# EAGLE library part EPM9560-RQ304 (library altera)
EPM9560 MAX 9000 family
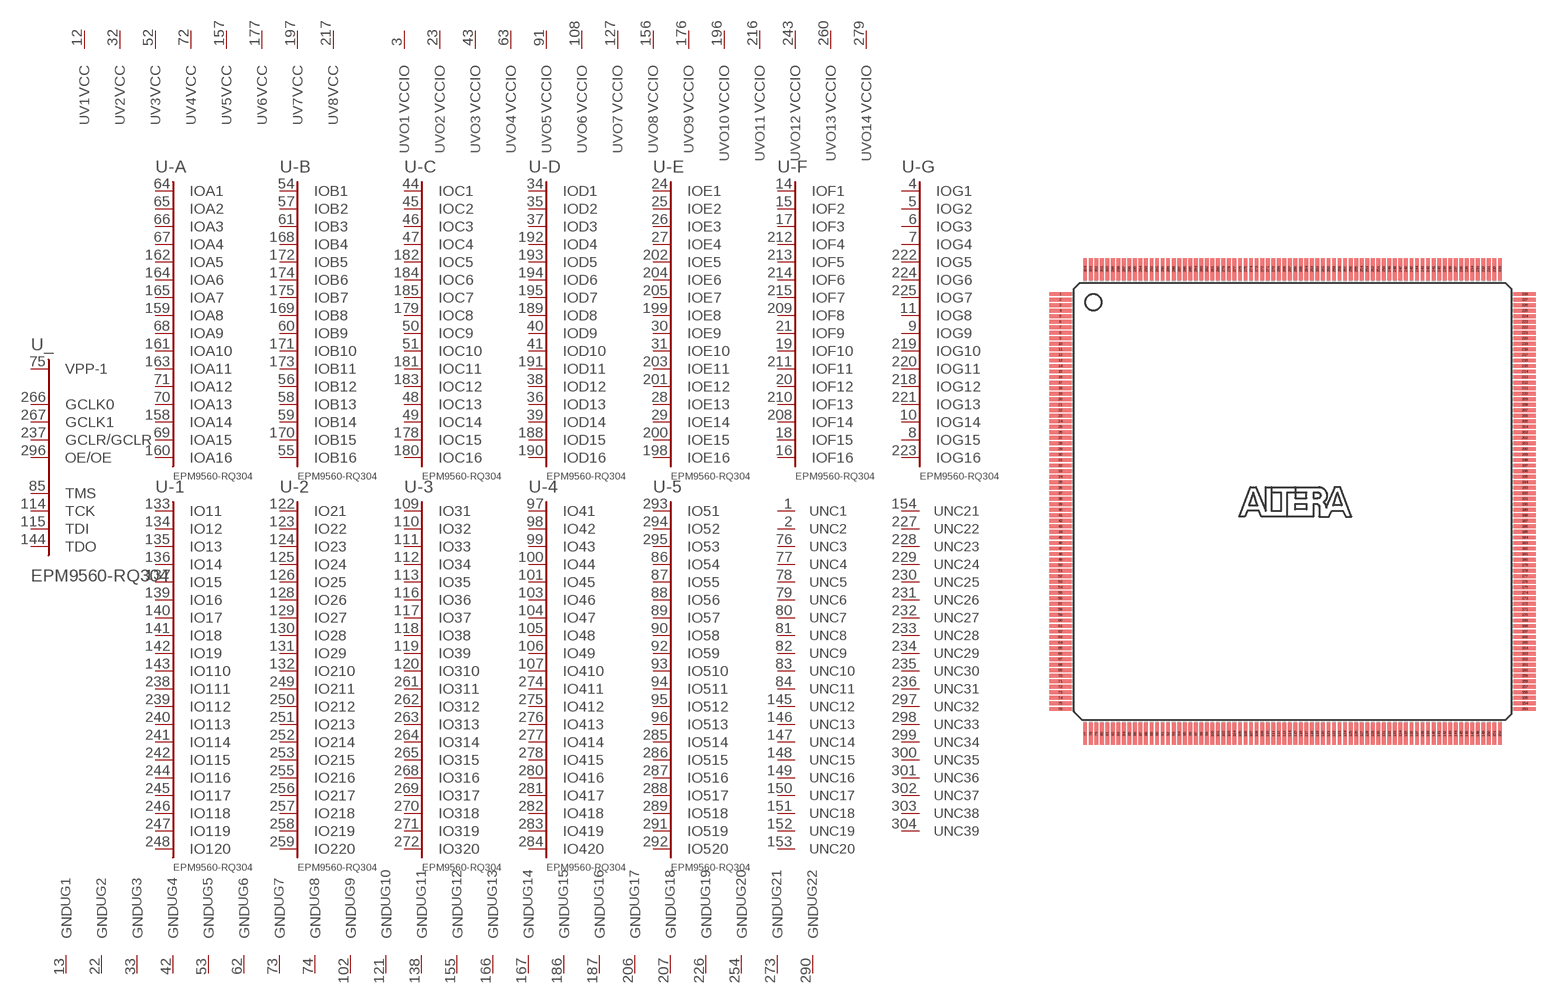
[diagram p21: symbol with the pads of RQFP304; footprint RQFP304]

Designator prefix U; gates _=9560C356 -A=A16-0 -B=B16-0 -C=C16-0 -D=D16-0 -E=E16-0 -F=F16-0 -G=G16-0 -1=IO120 -2=IO220 -3=IO320 -4=IO420 -5=IO520 V1=VCCINT V2=VCCINT V3=VCCINT V4=VCCINT V5=VCCINT V6=VCCINT V7=VCCINT V8=VCCINT VO1=VCCIO VO2=VCCIO VO3=VCCIO VO4=VCCIO VO5=VCCIO VO6=VCCIO VO7=VCCIO VO8=VCCIO VO9=VCCIO VO10=VCCIO VO11=VCCIO VO12=VCCIO VO13=VCCIO VO14=VCCIO G1=GND G2=GND G3=GND G4=GND G5=GND G6=GND G7=GND G8=GND G9=GND G10=GND G11=GND G12=GND G13=GND G14=GND G15=GND G16=GND G17=GND G18=GND G19=GND G20=GND G21=GND G22=GND NC1=NC NC2=NC NC3=NC NC4=NC NC5=NC NC6=NC NC7=NC NC8=NC NC9=NC NC10=NC NC11=NC NC12=NC NC13=NC NC14=NC NC15=NC NC16=NC NC17=NC NC18=NC NC19=NC NC20=NC NC21=NC NC22=NC NC23=NC NC24=NC NC25=NC NC26=NC NC27=NC NC28=NC NC29=NC NC30=NC NC31=NC NC32=NC NC33=NC NC34=NC NC35=NC NC36=NC NC37=NC NC38=NC NC39=NC

## EPM9560-RQ304  [RQFP304]
1  NC1:NC  nc
2  NC2:NC  nc
3  VO1:VCCIO  pwr
4  -G:IOG1
5  -G:IOG2
6  -G:IOG3
7  -G:IOG4
8  -G:IOG15
9  -G:IOG9
10  -G:IOG14
11  -G:IOG8
12  V1:VCC  pwr
13  G1:GND  pwr
14  -F:IOF1
15  -F:IOF2
16  -F:IOF16
17  -F:IOF3
18  -F:IOF15
19  -F:IOF10
20  -F:IOF12
21  -F:IOF9
22  G2:GND  pwr
23  VO2:VCCIO  pwr
24  -E:IOE1
25  -E:IOE2
26  -E:IOE3
27  -E:IOE4
28  -E:IOE13
29  -E:IOE14
30  -E:IOE9
31  -E:IOE10
32  V2:VCC  pwr
33  G3:GND  pwr
34  -D:IOD1
35  -D:IOD2
36  -D:IOD13
37  -D:IOD3
38  -D:IOD12
39  -D:IOD14
40  -D:IOD9
41  -D:IOD10
42  G4:GND  pwr
43  VO3:VCCIO  pwr
44  -C:IOC1
45  -C:IOC2
46  -C:IOC3
47  -C:IOC4
48  -C:IOC13
49  -C:IOC14
50  -C:IOC9
51  -C:IOC10
52  V3:VCC  pwr
53  G5:GND  pwr
54  -B:IOB1
55  -B:IOB16
56  -B:IOB12
57  -B:IOB2
58  -B:IOB13
59  -B:IOB14
60  -B:IOB9
61  -B:IOB3
62  G6:GND  pwr
63  VO4:VCCIO  pwr
64  -A:IOA1
65  -A:IOA2
66  -A:IOA3
67  -A:IOA4
68  -A:IOA9
69  -A:IOA15
70  -A:IOA13
71  -A:IOA12
72  V4:VCC  pwr
73  G7:GND  pwr
74  G8:GND  pwr
75  _:VPP-1  in
76  NC3:NC  nc
77  NC4:NC  nc
78  NC5:NC  nc
79  NC6:NC  nc
80  NC7:NC  nc
81  NC8:NC  nc
82  NC9:NC  nc
83  NC10:NC  nc
84  NC11:NC  nc
85  _:TMS
86  -5:IO54
87  -5:IO55
88  -5:IO56
89  -5:IO57
90  -5:IO58
91  VO5:VCCIO  pwr
92  -5:IO59
93  -5:IO510
94  -5:IO511
95  -5:IO512
96  -5:IO513
97  -4:IO41
98  -4:IO42
99  -4:IO43
100  -4:IO44
101  -4:IO45
102  G9:GND  pwr
103  -4:IO46
104  -4:IO47
105  -4:IO48
106  -4:IO49
107  -4:IO410
108  VO6:VCCIO  pwr
109  -3:IO31
110  -3:IO32
111  -3:IO33
112  -3:IO34
113  -3:IO35
114  _:TCK
115  _:TDI
116  -3:IO36
117  -3:IO37
118  -3:IO38
119  -3:IO39
120  -3:IO310
121  G10:GND  pwr
122  -2:IO21
123  -2:IO22
124  -2:IO23
125  -2:IO24
126  -2:IO25
127  VO7:VCCIO  pwr
128  -2:IO26
129  -2:IO27
130  -2:IO28
131  -2:IO29
132  -2:IO210
133  -1:IO11
134  -1:IO12
135  -1:IO13
136  -1:IO14
137  -1:IO15
138  G11:GND  pwr
139  -1:IO16
140  -1:IO17
141  -1:IO18
142  -1:IO19
143  -1:IO110
144  _:TDO
145  NC12:NC  nc
146  NC13:NC  nc
147  NC14:NC  nc
148  NC15:NC  nc
149  NC16:NC  nc
150  NC17:NC  nc
151  NC18:NC  nc
152  NC19:NC  nc
153  NC20:NC  nc
154  NC21:NC  nc
155  G12:GND  pwr
156  VO8:VCCIO  pwr
157  V5:VCC  pwr
158  -A:IOA14
159  -A:IOA8
160  -A:IOA16
161  -A:IOA10
162  -A:IOA5
163  -A:IOA11
164  -A:IOA6
165  -A:IOA7
166  G13:GND  pwr
167  G14:GND  pwr
168  -B:IOB4
169  -B:IOB8
170  -B:IOB15
171  -B:IOB10
172  -B:IOB5
173  -B:IOB11
174  -B:IOB6
175  -B:IOB7
176  VO9:VCCIO  pwr
177  V6:VCC  pwr
178  -C:IOC15
179  -C:IOC8
180  -C:IOC16
181  -C:IOC11
182  -C:IOC5
183  -C:IOC12
184  -C:IOC6
185  -C:IOC7
186  G15:GND  pwr
187  G16:GND  pwr
188  -D:IOD15
189  -D:IOD8
190  -D:IOD16
191  -D:IOD11
192  -D:IOD4
193  -D:IOD5
194  -D:IOD6
195  -D:IOD7
196  VO10:VCCIO  pwr
197  V7:VCC  pwr
198  -E:IOE16
199  -E:IOE8
200  -E:IOE15
201  -E:IOE12
202  -E:IOE5
203  -E:IOE11
204  -E:IOE6
205  -E:IOE7
206  G17:GND  pwr
207  G18:GND  pwr
208  -F:IOF14
209  -F:IOF8
210  -F:IOF13
211  -F:IOF11
212  -F:IOF4
213  -F:IOF5
214  -F:IOF6
215  -F:IOF7
216  VO11:VCCIO  pwr
217  V8:VCC  pwr
218  -G:IOG12
219  -G:IOG10
220  -G:IOG11
221  -G:IOG13
222  -G:IOG5
223  -G:IOG16
224  -G:IOG6
225  -G:IOG7
226  G19:GND  pwr
227  NC22:NC  nc
228  NC23:NC  nc
229  NC24:NC  nc
230  NC25:NC  nc
231  NC26:NC  nc
232  NC27:NC  nc
233  NC28:NC  nc
234  NC29:NC  nc
235  NC30:NC  nc
236  NC31:NC  nc
237  _:GCLR/GCLR  in
238  -1:IO111
239  -1:IO112
240  -1:IO113
241  -1:IO114
242  -1:IO115
243  VO12:VCCIO  pwr
244  -1:IO116
245  -1:IO117
246  -1:IO118
247  -1:IO119
248  -1:IO120
249  -2:IO211
250  -2:IO212
251  -2:IO213
252  -2:IO214
253  -2:IO215
254  G20:GND  pwr
255  -2:IO216
256  -2:IO217
257  -2:IO218
258  -2:IO219
259  -2:IO220
260  VO13:VCCIO  pwr
261  -3:IO311
262  -3:IO312
263  -3:IO313
264  -3:IO314
265  -3:IO315
266  _:GCLK0  in
267  _:GCLK1  in
268  -3:IO316
269  -3:IO317
270  -3:IO318
271  -3:IO319
272  -3:IO320
273  G21:GND  pwr
274  -4:IO411
275  -4:IO412
276  -4:IO413
277  -4:IO414
278  -4:IO415
279  VO14:VCCIO  pwr
280  -4:IO416
281  -4:IO417
282  -4:IO418
283  -4:IO419
284  -4:IO420
285  -5:IO514
286  -5:IO515
287  -5:IO516
288  -5:IO517
289  -5:IO518
290  G22:GND  pwr
291  -5:IO519
292  -5:IO520
293  -5:IO51
294  -5:IO52
295  -5:IO53
296  _:OE/OE  in
297  NC32:NC  nc
298  NC33:NC  nc
299  NC34:NC  nc
300  NC35:NC  nc
301  NC36:NC  nc
302  NC37:NC  nc
303  NC38:NC  nc
304  NC39:NC  nc

## Footprint RQFP304 (pad centres in mm)
Power Quad Flat Pack
smd 2 x 0.35: 1 -21,18.75; 2 -21,18.25; 3 -21,17.75; 4 -21,17.25; 5 -21,16.75; 6 -21,16.25; 7 -21,15.75; 8 -21,15.25; 9 -21,14.75; 10 -21,14.25; 11 -21,13.75; 12 -21,13.25; 13 -21,12.75; 14 -21,12.25; 15 -21,11.75; 16 -21,11.25; 17 -21,10.75; 18 -21,10.25; 19 -21,9.75; 20 -21,9.25; 21 -21,8.75; 22 -21,8.25; 23 -21,7.75; 24 -21,7.25; 25 -21,6.75; 26 -21,6.25; 27 -21,5.75; 28 -21,5.25; 29 -21,4.75; 30 -21,4.25; 31 -21,3.75; 32 -21,3.25; 33 -21,2.75; 34 -21,2.25; 35 -21,1.75; 36 -21,1.25; 37 -21,0.75; 38 -21,0.25; 39 -21,-0.25; 40 -21,-0.75; 41 -21,-1.25; 42 -21,-1.75; 43 -21,-2.25; 44 -21,-2.75; 45 -21,-3.25; 46 -21,-3.75; 47 -21,-4.25; 48 -21,-4.75; 49 -21,-5.25; 50 -21,-5.75; 51 -21,-6.25; 52 -21,-6.75; 53 -21,-7.25; 54 -21,-7.75; 55 -21,-8.25; 56 -21,-8.75; 57 -21,-9.25; 58 -21,-9.75; 59 -21,-10.25; 60 -21,-10.75; 61 -21,-11.25; 62 -21,-11.75; 63 -21,-12.25; 64 -21,-12.75; 65 -21,-13.25; 66 -21,-13.75; 67 -21,-14.25; 68 -21,-14.75; 69 -21,-15.25; 70 -21,-15.75; 71 -21,-16.25; 72 -21,-16.75; 73 -21,-17.25; 74 -21,-17.75; 75 -21,-18.25; 76 -21,-18.75; 153 21,-18.75; 154 21,-18.25; 155 21,-17.75; 156 21,-17.25; 157 21,-16.75; 158 21,-16.25; 159 21,-15.75; 160 21,-15.25; 161 21,-14.75; 162 21,-14.25; 163 21,-13.75; 164 21,-13.25; 165 21,-12.75; 166 21,-12.25; 167 21,-11.75; 168 21,-11.25; 169 21,-10.75; 170 21,-10.25; 171 21,-9.75; 172 21,-9.25; 173 21,-8.75; 174 21,-8.25; 175 21,-7.75; 176 21,-7.25; 177 21,-6.75; 178 21,-6.25; 179 21,-5.75; 180 21,-5.25; 181 21,-4.75; 182 21,-4.25; 183 21,-3.75; 184 21,-3.25; 185 21,-2.75; 186 21,-2.25; 187 21,-1.75; 188 21,-1.25; 189 21,-0.75; 190 21,-0.25; 191 21,0.25; 192 21,0.75; 193 21,1.25; 194 21,1.75; 195 21,2.25; 196 21,2.75; 197 21,3.25; 198 21,3.75; 199 21,4.25; 200 21,4.75; 201 21,5.25; 202 21,5.75; 203 21,6.25; 204 21,6.75; 205 21,7.25; 206 21,7.75; 207 21,8.25; 208 21,8.75; 209 21,9.25; 210 21,9.75; 211 21,10.25; 212 21,10.75; 213 21,11.25; 214 21,11.75; 215 21,12.25; 216 21,12.75; 217 21,13.25; 218 21,13.75; 219 21,14.25; 220 21,14.75; 221 21,15.25; 222 21,15.75; 223 21,16.25; 224 21,16.75; 225 21,17.25; 226 21,17.75; 227 21,18.25; 228 21,18.75
smd 0.35 x 2: 77 -18.75,-21; 78 -18.25,-21; 79 -17.75,-21; 80 -17.25,-21; 81 -16.75,-21; 82 -16.25,-21; 83 -15.75,-21; 84 -15.25,-21; 85 -14.75,-21; 86 -14.25,-21; 87 -13.75,-21; 88 -13.25,-21; 89 -12.75,-21; 90 -12.25,-21; 91 -11.75,-21; 92 -11.25,-21; 93 -10.75,-21; 94 -10.25,-21; 95 -9.75,-21; 96 -9.25,-21; 97 -8.75,-21; 98 -8.25,-21; 99 -7.75,-21; 100 -7.25,-21; 101 -6.75,-21; 102 -6.25,-21; 103 -5.75,-21; 104 -5.25,-21; 105 -4.75,-21; 106 -4.25,-21; 107 -3.75,-21; 108 -3.25,-21; 109 -2.75,-21; 110 -2.25,-21; 111 -1.75,-21; 112 -1.25,-21; 113 -0.75,-21; 114 -0.25,-21; 115 0.25,-21; 116 0.75,-21; 117 1.25,-21; 118 1.75,-21; 119 2.25,-21; 120 2.75,-21; 121 3.25,-21; 122 3.75,-21; 123 4.25,-21; 124 4.75,-21; 125 5.25,-21; 126 5.75,-21; 127 6.25,-21; 128 6.75,-21; 129 7.25,-21; 130 7.75,-21; 131 8.25,-21; 132 8.75,-21; 133 9.25,-21; 134 9.75,-21; 135 10.25,-21; 136 10.75,-21; 137 11.25,-21; 138 11.75,-21; 139 12.25,-21; 140 12.75,-21; 141 13.25,-21; 142 13.75,-21; 143 14.25,-21; 144 14.75,-21; 145 15.25,-21; 146 15.75,-21; 147 16.25,-21; 148 16.75,-21; 149 17.25,-21; 150 17.75,-21; 151 18.25,-21; 152 18.75,-21; 229 18.75,21; 230 18.25,21; 231 17.75,21; 232 17.25,21; 233 16.75,21; 234 16.25,21; 235 15.75,21; 236 15.25,21; 237 14.75,21; 238 14.25,21; 239 13.75,21; 240 13.25,21; 241 12.75,21; 242 12.25,21; 243 11.75,21; 244 11.25,21; 245 10.75,21; 246 10.25,21; 247 9.75,21; 248 9.25,21; 249 8.75,21; 250 8.25,21; 251 7.75,21; 252 7.25,21; 253 6.75,21; 254 6.25,21; 255 5.75,21; 256 5.25,21; 257 4.75,21; 258 4.25,21; 259 3.75,21; 260 3.25,21; 261 2.75,21; 262 2.25,21; 263 1.75,21; 264 1.25,21; 265 0.75,21; 266 0.25,21; 267 -0.25,21; 268 -0.75,21; 269 -1.25,21; 270 -1.75,21; 271 -2.25,21; 272 -2.75,21; 273 -3.25,21; 274 -3.75,21; 275 -4.25,21; 276 -4.75,21; 277 -5.25,21; 278 -5.75,21; 279 -6.25,21; 280 -6.75,21; 281 -7.25,21; 282 -7.75,21; 283 -8.25,21; 284 -8.75,21; 285 -9.25,21; 286 -9.75,21; 287 -10.25,21; 288 -10.75,21; 289 -11.25,21; 290 -11.75,21; 291 -12.25,21; 292 -12.75,21; 293 -13.25,21; 294 -13.75,21; 295 -14.25,21; 296 -14.75,21; 297 -15.25,21; 298 -15.75,21; 299 -16.25,21; 300 -16.75,21; 301 -17.25,21; 302 -17.75,21; 303 -18.25,21; 304 -18.75,21